# EAGLE library part INA827 (library brett)
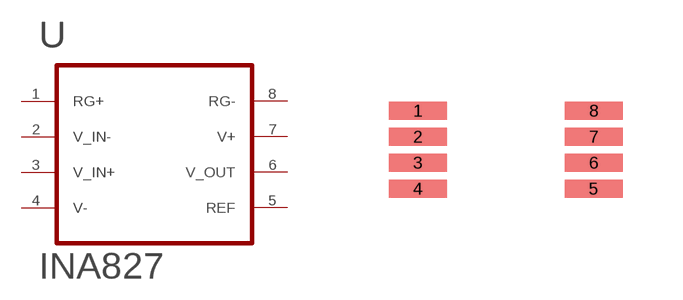
[diagram p10: symbol with the pads of VSSOP-8; footprint VSSOP-8]

Designator prefix -

## INA827  [VSSOP-8]
1  RG+
2  V_IN-
3  V_IN+
4  V-
5  REF
6  V_OUT
7  V+
8  RG-

## Footprint VSSOP-8 (pad centres in mm)
smd 1.45 x 0.45: 1 -2.15,1.05; 2 -2.15,0.4; 3 -2.15,-0.25; 4 -2.15,-0.9; 5 2.25,-0.9; 6 2.25,-0.25; 7 2.25,0.4; 8 2.25,1.05